# Altium footprint library PCB - CONNECTOR - MOLEX - MOLEX 0559320710.PcbLib: 1 footprints
Each footprint in its own frame and in the unit in brackets; x right, y up, seen from the top. Pads: shape width x height; smd on the part's side, far side on the other; paste and mask are expansions set on the pad; w line width, h text height; cw(c..) or ccw(c..) is an arc to the next point about the centre after c.
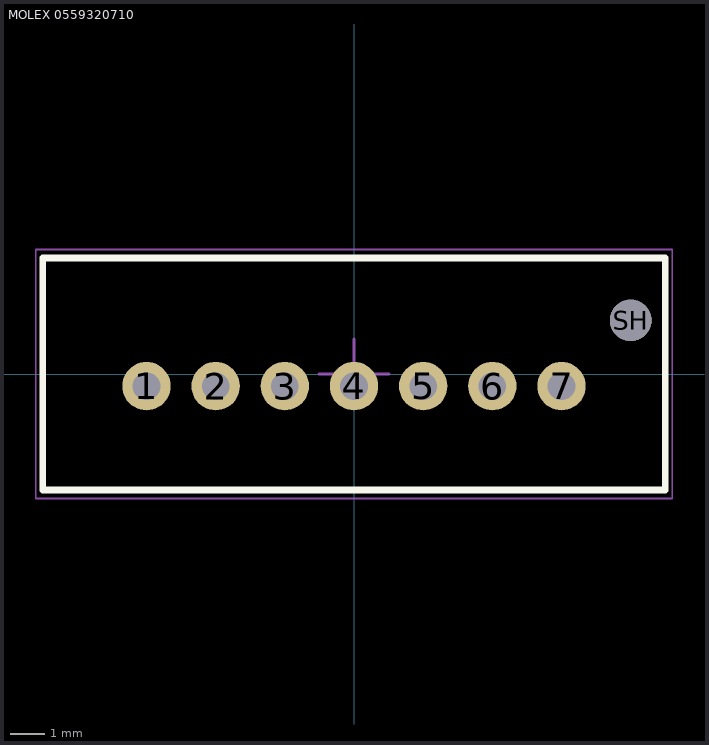
[diagram p0: the footprint, top view; thin cyan lines are the x and y axes]

## MOLEX 0559320710 [mm] "Connector Header Through Hole 7 position, 2mm Pitch, 18x6.7mm Body"
height 9.75
pads (8):
  round 1.4 hole 0.8: 1(-6,-0.35) 2(-4,-0.35) 3(-2,-0.35) 4(0,-0.35) 5(2,-0.35) 6(4,-0.35) 7(6,-0.35)
  round 1.2 hole 1.2: SH(8,1.55)
Top Overlay:
  lines w0.2: -9,-3.35 9,-3.35 9,3.35 -9,3.35 -9,-3.35
Mechanical 13:
  lines w0.1: -9,-3.35 -9,3.35 9,3.35 9,-3.35 -9,-3.35
Mechanical 15 (Mech15):
  lines w0.05: -9.2,-3.6 -9.2,3.6 9.2,3.6 9.2,-3.6 -9.2,-3.6
  lines w0.1: -1,0 0,0 ; 0,-1 0,0 ; 0,1 0,0 ; 1,0 0,0
3D body: height 9.75, standoff -3.2, extent -9,-3.35 9,3.35